# EAGLE library part LA7042 (library THU VIEN MOI)
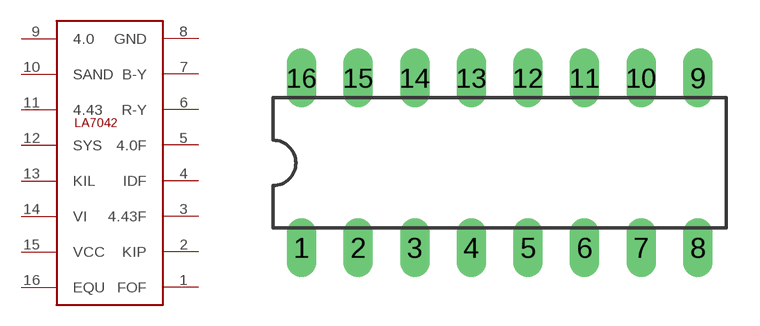
[diagram p2: symbol with the pads of LA7042; footprint LA7042]

Designator prefix -

## LA7042S  [LA7042]
1  FOF
2  KIP
3  4.43F
4  IDF
5  4.0F
6  R-Y
7  B-Y
8  GND
9  4.0
10  SAND
11  4.43
12  SYS
13  KIL
14  VI
15  VCC
16  EQU

## Footprint LA7042 (pad centres in mm)
drill 0.813 long: 1 -10.16,-2.54; 2 -7.62,-2.54; 3 -5.08,-2.54; 4 -2.54,-2.54; 5 0,-2.54; 6 2.54,-2.54; 7 5.08,-2.54; 8 7.62,-2.54; 9 7.62,5.08; 10 5.08,5.08; 11 2.54,5.08; 12 0,5.08; 13 -2.54,5.08; 14 -5.08,5.08; 15 -7.62,5.08; 16 -10.16,5.08